# EAGLE library part HEADER6-IO (library motorFeedback)
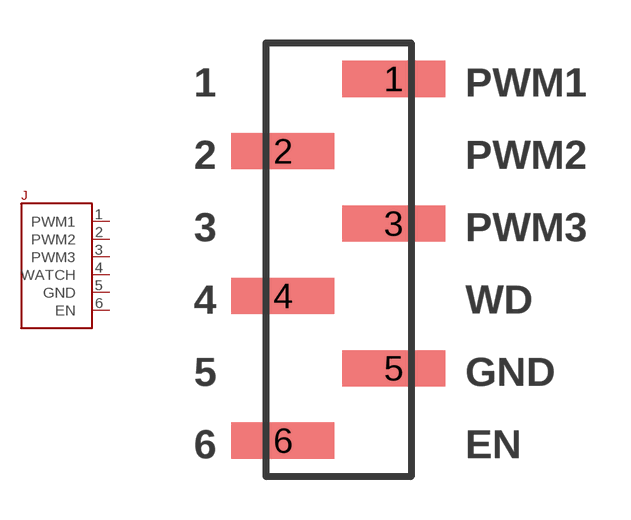
[diagram p23: symbol with the pads of HEADER6-IO-SMT; footprint HEADER6-IO-SMT]

Designator prefix J

## HEADER6-IOSMD  [HEADER6-IO-SMT]
1  PWM1
2  PWM2
3  PWM3
4  WATCH
5  GND
6  EN

## Footprint HEADER6-IO-SMT (pad centres in mm)
IO
smd 3.607 x 1.27: 1 1.93,5.08; 2 -1.956,2.54; 3 1.93,0; 4 -1.956,-2.54; 5 1.93,-5.08; 6 -1.956,-7.62